# Altium footprint library Package_SO.PcbLib: 393 footprints (part 12 of 25)
Each footprint in its own frame and in the unit in brackets; x right, y up, seen from the top. Pads: shape width x height; smd on the part's side, far side on the other; paste and mask are expansions set on the pad; w line width, h text height; cw(c..) or ccw(c..) is an arc to the next point about the centre after c.
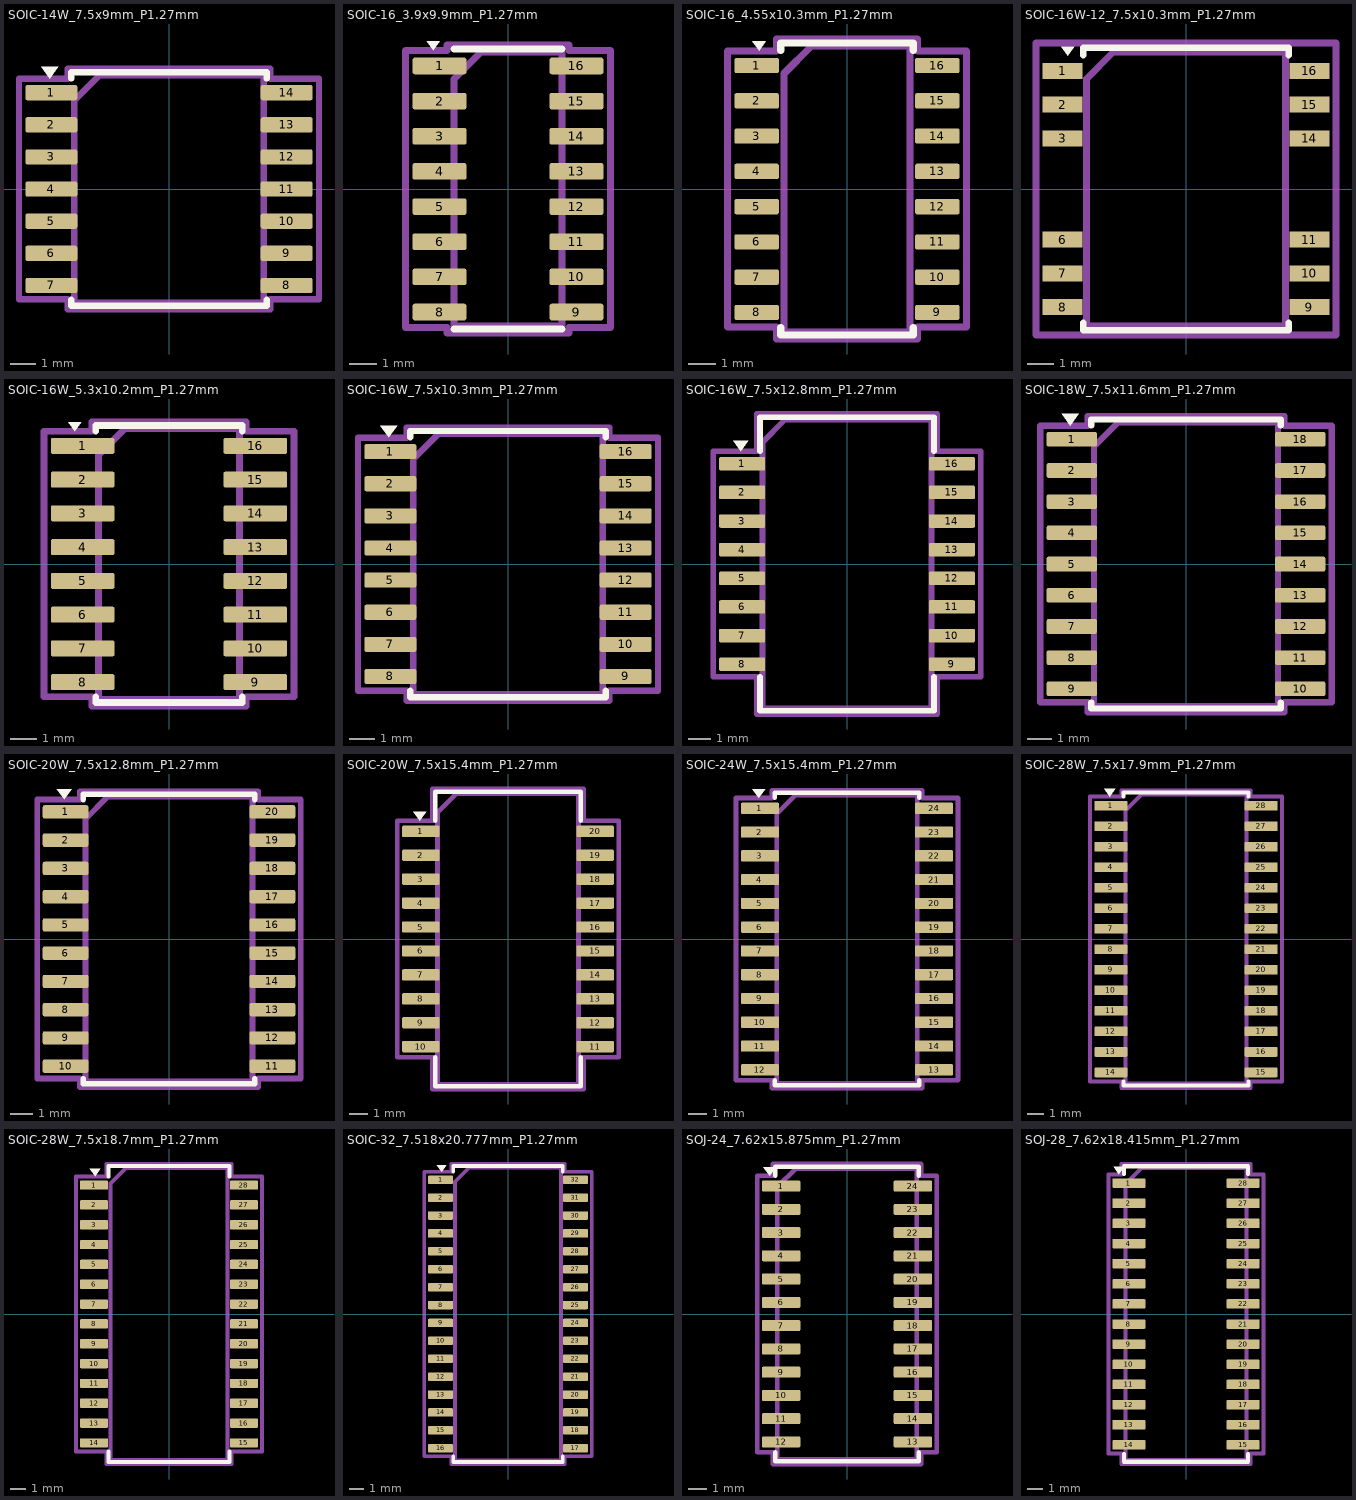
[diagram p11: the footprints below, top view; thin cyan lines are the x and y axes]

## SOIC-14W_7.5x9mm_P1.27mm [mm]
pads (14):
  rrect25% 2.05x0.6 smd: 1(-4.65,3.81) 2(-4.65,2.54) 3(-4.65,1.27) 4(-4.65,0) 5(-4.65,-1.27) 6(-4.65,-2.54) 7(-4.65,-3.81) 8(4.65,-3.81) 9(4.65,-2.54) 10(4.65,-1.27) 11(4.65,0) 12(4.65,1.27) 13(4.65,2.54) 14(4.65,3.81)
F.SilkS:
  region: -4.713,4.37 -5.052,4.84 -4.373,4.84
  lines w0.254: -3.86,-4.37 -3.86,-4.61 0,-4.61 3.86,-4.61 3.86,-4.37 ; -3.86,4.37 -3.86,4.61 0,4.61 3.86,4.61 3.86,4.37
Top Assembly:
  lines w0.254: -3.75,-4.5 3.75,-4.5 3.75,4.5 -2.75,4.5 -3.75,3.5 -3.75,-4.5
  text "'.Designator'" at -4.047,-0.84 h1
Top Courtyard:
  lines w0.254: -5.93,-4.36 -4,-4.36 -4,-4.75 4,-4.75 4,-4.36 5.93,-4.36 5.93,4.36 4,4.36 4,4.75 -4,4.75 -4,4.36 -5.93,4.36 -5.93,-4.36
Top Designator:
  text ".Designator" at -7.618,-0.508 h1.52

## SOIC-16_3.9x9.9mm_P1.27mm [mm]
pads (16):
  rrect25% 1.95x0.6 smd: 1(-2.475,4.445) 2(-2.475,3.175) 3(-2.475,1.905) 4(-2.475,0.635) 5(-2.475,-0.635) 6(-2.475,-1.905) 7(-2.475,-3.175) 8(-2.475,-4.445) 9(2.475,-4.445) 10(2.475,-3.175) 11(2.475,-1.905) 12(2.475,-0.635) 13(2.475,0.635) 14(2.475,1.905) 15(2.475,3.175) 16(2.475,4.445)
F.SilkS:
  region: -2.7,5.005 -2.94,5.335 -2.46,5.335
  lines w0.254: -1.95,-5.06 0,-5.06 1.95,-5.06 ; -1.95,5.06 0,5.06 1.95,5.06
Top Assembly:
  lines w0.254: -1.95,-4.95 1.95,-4.95 1.95,4.95 -0.975,4.95 -1.95,3.975 -1.95,-4.95
  text "'.Designator'" at -3.969,-0.827 h0.98
Top Courtyard:
  lines w0.254: -3.7,-5 -2.2,-5 -2.2,-5.2 2.2,-5.2 2.2,-5 3.7,-5 3.7,5 2.2,5 2.2,5.2 -2.2,5.2 -2.2,5 -3.7,5 -3.7,-5
Top Designator:
  text ".Designator" at -7.763,-0.504 h1.52

## SOIC-16_4.55x10.3mm_P1.27mm [mm]
pads (16):
  rrect25% 1.6x0.55 smd: 1(-3.25,4.445) 2(-3.25,3.175) 3(-3.25,1.905) 4(-3.25,0.635) 5(-3.25,-0.635) 6(-3.25,-1.905) 7(-3.25,-3.175) 8(-3.25,-4.445) 9(3.25,-4.445) 10(3.25,-3.175) 11(3.25,-1.905) 12(3.25,-0.635) 13(3.25,0.635) 14(3.25,1.905) 15(3.25,3.175) 16(3.25,4.445)
F.SilkS:
  region: -3.163,4.98 -3.403,5.31 -2.923,5.31
  lines w0.254: -2.385,-4.98 -2.385,-5.26 0,-5.26 2.385,-5.26 2.385,-4.98 ; -2.385,4.98 -2.385,5.26 0,5.26 2.385,5.26 2.385,4.98
Top Assembly:
  lines w0.254: -2.275,-5.15 2.275,-5.15 2.275,5.15 -1.275,5.15 -2.275,4.15 -2.275,-5.15
  text "'.Designator'" at -4.047,-0.84 h1
Top Courtyard:
  lines w0.254: -4.3,-4.97 -2.53,-4.97 -2.53,-5.4 2.53,-5.4 2.53,-4.97 4.3,-4.97 4.3,4.97 2.53,4.97 2.53,5.4 -2.53,5.4 -2.53,4.97 -4.3,4.97 -4.3,-4.97
Top Designator:
  text ".Designator" at -7.618,-0.508 h1.52

## SOIC-16W-12_7.5x10.3mm_P1.27mm [mm]
pads (12):
  rect 1.5x0.6 smd: 1(-4.65,4.445) 2(-4.65,3.175) 3(-4.65,1.905) 6(-4.65,-1.905) 7(-4.65,-3.175) 8(-4.65,-4.445) 9(4.65,-4.445) 10(4.65,-3.175) 11(4.65,-1.905) 14(4.65,1.905) 15(4.65,3.175) 16(4.65,4.445)
F.SilkS:
  region: -4.45,5.025 -4.69,5.355 -4.21,5.355
  lines w0.254: -3.875,-5.05 -3.875,-5.325 3.875,-5.325 3.875,-5.05 ; -3.875,5.05 -3.875,5.325 3.875,5.325 3.875,5.05
Top Assembly:
  lines w0.254: -3.75,-5.15 3.75,-5.15 3.75,5.15 -2.75,5.15 -3.75,4.15 -3.75,-5.15
  text "'.Designator'" at -4.047,-0.84 h1
Top Courtyard:
  lines w0.254: -5.65,-5.5 5.65,-5.5 5.65,5.5 -5.65,5.5 -5.65,-5.5
Top Designator:
  text ".Designator" at -7.618,-0.508 h1.52

## SOIC-16W_5.3x10.2mm_P1.27mm [mm]
pads (16):
  rrect25% 2.4x0.6 smd: 1(-3.25,4.445) 2(-3.25,3.175) 3(-3.25,1.905) 4(-3.25,0.635) 5(-3.25,-0.635) 6(-3.25,-1.905) 7(-3.25,-3.175) 8(-3.25,-4.445) 9(3.25,-4.445) 10(3.25,-3.175) 11(3.25,-1.905) 12(3.25,-0.635) 13(3.25,0.635) 14(3.25,1.905) 15(3.25,3.175) 16(3.25,4.445)
F.SilkS:
  region: -3.55,5.005 -3.79,5.335 -3.31,5.335
  lines w0.254: -2.76,-5.005 -2.76,-5.21 0,-5.21 2.76,-5.21 2.76,-5.005 ; -2.76,5.005 -2.76,5.21 0,5.21 2.76,5.21 2.76,5.005
Top Assembly:
  lines w0.254: -2.65,-5.1 2.65,-5.1 2.65,5.1 -1.65,5.1 -2.65,4.1 -2.65,-5.1
  text "'.Designator'" at -4.047,-0.84 h1
Top Courtyard:
  lines w0.254: -4.7,-5 -2.9,-5 -2.9,-5.35 2.9,-5.35 2.9,-5 4.7,-5 4.7,5 2.9,5 2.9,5.35 -2.9,5.35 -2.9,5 -4.7,5 -4.7,-5
Top Designator:
  text ".Designator" at -7.618,-0.508 h1.52

## SOIC-16W_7.5x10.3mm_P1.27mm [mm]
pads (16):
  rrect25% 2.05x0.6 smd: 1(-4.65,4.445) 2(-4.65,3.175) 3(-4.65,1.905) 4(-4.65,0.635) 5(-4.65,-0.635) 6(-4.65,-1.905) 7(-4.65,-3.175) 8(-4.65,-4.445) 9(4.65,-4.445) 10(4.65,-3.175) 11(4.65,-1.905) 12(4.65,-0.635) 13(4.65,0.635) 14(4.65,1.905) 15(4.65,3.175) 16(4.65,4.445)
F.SilkS:
  region: -4.713,5.005 -5.052,5.475 -4.373,5.475
  lines w0.254: -3.86,-5.005 -3.86,-5.26 0,-5.26 3.86,-5.26 3.86,-5.005 ; -3.86,5.005 -3.86,5.26 0,5.26 3.86,5.26 3.86,5.005
Top Assembly:
  lines w0.254: -3.75,-5.15 3.75,-5.15 3.75,5.15 -2.75,5.15 -3.75,4.15 -3.75,-5.15
  text "'.Designator'" at -4.047,-0.84 h1
Top Courtyard:
  lines w0.254: -5.93,-5 -4,-5 -4,-5.4 4,-5.4 4,-5 5.93,-5 5.93,5 4,5 4,5.4 -4,5.4 -4,5 -5.93,5 -5.93,-5
Top Designator:
  text ".Designator" at -7.618,-0.508 h1.52

## SOIC-16W_7.5x12.8mm_P1.27mm [mm]
pads (16):
  rrect25% 2.05x0.6 smd: 1(-4.65,4.445) 2(-4.65,3.175) 3(-4.65,1.905) 4(-4.65,0.635) 5(-4.65,-0.635) 6(-4.65,-1.905) 7(-4.65,-3.175) 8(-4.65,-4.445) 9(4.65,-4.445) 10(4.65,-3.175) 11(4.65,-1.905) 12(4.65,-0.635) 13(4.65,0.635) 14(4.65,1.905) 15(4.65,3.175) 16(4.65,4.445)
F.SilkS:
  region: -4.713,5.005 -5.052,5.475 -4.373,5.475
  lines w0.254: -3.86,-5.005 -3.86,-6.51 0,-6.51 3.86,-6.51 3.86,-5.005 ; -3.86,5.005 -3.86,6.51 0,6.51 3.86,6.51 3.86,5.005
Top Assembly:
  lines w0.254: -3.75,-6.4 3.75,-6.4 3.75,6.4 -2.75,6.4 -3.75,5.4 -3.75,-6.4
  text "'.Designator'" at -4.047,-0.84 h1
Top Courtyard:
  lines w0.254: -5.93,-5 -4,-5 -4,-6.65 4,-6.65 4,-5 5.93,-5 5.93,5 4,5 4,6.65 -4,6.65 -4,5 -5.93,5 -5.93,-5
Top Designator:
  text ".Designator" at -7.618,-0.508 h1.52

## SOIC-18W_7.5x11.6mm_P1.27mm [mm]
pads (18):
  rrect25% 2.05x0.6 smd: 1(-4.65,5.08) 2(-4.65,3.81) 3(-4.65,2.54) 4(-4.65,1.27) 5(-4.65,0) 6(-4.65,-1.27) 7(-4.65,-2.54) 8(-4.65,-3.81) 9(-4.65,-5.08) 10(4.65,-5.08) 11(4.65,-3.81) 12(4.65,-2.54) 13(4.65,-1.27) 14(4.65,0) 15(4.65,1.27) 16(4.65,2.54) 17(4.65,3.81) 18(4.65,5.08)
F.SilkS:
  region: -4.713,5.64 -5.052,6.11 -4.373,6.11
  lines w0.254: -3.86,-5.64 -3.86,-5.885 0,-5.885 3.86,-5.885 3.86,-5.64 ; -3.86,5.64 -3.86,5.885 0,5.885 3.86,5.885 3.86,5.64
Top Assembly:
  lines w0.254: -3.75,-5.775 3.75,-5.775 3.75,5.775 -2.75,5.775 -3.75,4.775 -3.75,-5.775
  text "'.Designator'" at -4.047,-0.84 h1
Top Courtyard:
  lines w0.254: -5.93,-5.63 -4,-5.63 -4,-6.03 4,-6.03 4,-5.63 5.93,-5.63 5.93,5.63 4,5.63 4,6.03 -4,6.03 -4,5.63 -5.93,5.63 -5.93,-5.63
Top Designator:
  text ".Designator" at -7.618,-0.508 h1.52

## SOIC-20W_7.5x12.8mm_P1.27mm [mm]
pads (20):
  rrect25% 2.05x0.6 smd: 1(-4.65,5.715) 2(-4.65,4.445) 3(-4.65,3.175) 4(-4.65,1.905) 5(-4.65,0.635) 6(-4.65,-0.635) 7(-4.65,-1.905) 8(-4.65,-3.175) 9(-4.65,-4.445) 10(-4.65,-5.715) 11(4.65,-5.715) 12(4.65,-4.445) 13(4.65,-3.175) 14(4.65,-1.905) 15(4.65,-0.635) 16(4.65,0.635) 17(4.65,1.905) 18(4.65,3.175) 19(4.65,4.445) 20(4.65,5.715)
F.SilkS:
  region: -4.713,6.275 -5.052,6.745 -4.373,6.745
  lines w0.254: -3.86,-6.275 -3.86,-6.51 0,-6.51 3.86,-6.51 3.86,-6.275 ; -3.86,6.275 -3.86,6.51 0,6.51 3.86,6.51 3.86,6.275
Top Assembly:
  lines w0.254: -3.75,-6.4 3.75,-6.4 3.75,6.4 -2.75,6.4 -3.75,5.4 -3.75,-6.4
  text "'.Designator'" at -4.047,-0.84 h1
Top Courtyard:
  lines w0.254: -5.93,-6.27 -4,-6.27 -4,-6.65 4,-6.65 4,-6.27 5.93,-6.27 5.93,6.27 4,6.27 4,6.65 -4,6.65 -4,6.27 -5.93,6.27 -5.93,-6.27
Top Designator:
  text ".Designator" at -7.618,-0.508 h1.52

## SOIC-20W_7.5x15.4mm_P1.27mm [mm]
pads (20):
  rrect25% 2x0.6 smd: 1(-4.625,5.715) 2(-4.625,4.445) 3(-4.625,3.175) 4(-4.625,1.905) 5(-4.625,0.635) 6(-4.625,-0.635) 7(-4.625,-1.905) 8(-4.625,-3.175) 9(-4.625,-4.445) 10(-4.625,-5.715) 11(4.625,-5.715) 12(4.625,-4.445) 13(4.625,-3.175) 14(4.625,-1.905) 15(4.625,-0.635) 16(4.625,0.635) 17(4.625,1.905) 18(4.625,3.175) 19(4.625,4.445) 20(4.625,5.715)
F.SilkS:
  region: -4.685,6.275 -5.025,6.745 -4.345,6.745
  lines w0.254: -3.855,-6.275 -3.855,-7.812 0,-7.812 3.855,-7.812 3.855,-6.275 ; -3.855,6.275 -3.855,7.812 0,7.812 3.855,7.812 3.855,6.275
Top Assembly:
  lines w0.254: -3.745,-7.702 3.745,-7.702 3.745,7.702 -2.745,7.702 -3.745,6.703 -3.745,-7.702
  text "'.Designator'" at -4.047,-0.84 h1
Top Courtyard:
  lines w0.254: -5.88,-6.27 -4,-6.27 -4,-7.96 4,-7.96 4,-6.27 5.88,-6.27 5.88,6.27 4,6.27 4,7.96 -4,7.96 -4,6.27 -5.88,6.27 -5.88,-6.27
Top Designator:
  text ".Designator" at -7.618,-0.508 h1.52

## SOIC-24W_7.5x15.4mm_P1.27mm [mm]
pads (24):
  rrect25% 2.05x0.6 smd: 1(-4.65,6.985) 2(-4.65,5.715) 3(-4.65,4.445) 4(-4.65,3.175) 5(-4.65,1.905) 6(-4.65,0.635) 7(-4.65,-0.635) 8(-4.65,-1.905) 9(-4.65,-3.175) 10(-4.65,-4.445) 11(-4.65,-5.715) 12(-4.65,-6.985) 13(4.65,-6.985) 14(4.65,-5.715) 15(4.65,-4.445) 16(4.65,-3.175) 17(4.65,-1.905) 18(4.65,-0.635) 19(4.65,0.635) 20(4.65,1.905) 21(4.65,3.175) 22(4.65,4.445) 23(4.65,5.715) 24(4.65,6.985)
F.SilkS:
  region: -4.713,7.545 -5.052,8.015 -4.373,8.015
  lines w0.254: -3.86,-7.545 -3.86,-7.81 0,-7.81 3.86,-7.81 3.86,-7.545 ; -3.86,7.545 -3.86,7.81 0,7.81 3.86,7.81 3.86,7.545
Top Assembly:
  lines w0.254: -3.75,-7.7 3.75,-7.7 3.75,7.7 -2.75,7.7 -3.75,6.7 -3.75,-7.7
  text "'.Designator'" at -4.047,-0.84 h1
Top Courtyard:
  lines w0.254: -5.93,-7.54 -4,-7.54 -4,-7.95 4,-7.95 4,-7.54 5.93,-7.54 5.93,7.54 4,7.54 4,7.95 -4,7.95 -4,7.54 -5.93,7.54 -5.93,-7.54
Top Designator:
  text ".Designator" at -7.618,-0.508 h1.52

## SOIC-28W_7.5x17.9mm_P1.27mm [mm]
pads (28):
  rrect25% 2.05x0.6 smd: 1(-4.65,8.255) 2(-4.65,6.985) 3(-4.65,5.715) 4(-4.65,4.445) 5(-4.65,3.175) 6(-4.65,1.905) 7(-4.65,0.635) 8(-4.65,-0.635) 9(-4.65,-1.905) 10(-4.65,-3.175) 11(-4.65,-4.445) 12(-4.65,-5.715) 13(-4.65,-6.985) 14(-4.65,-8.255) 15(4.65,-8.255) 16(4.65,-6.985) 17(4.65,-5.715) 18(4.65,-4.445) 19(4.65,-3.175) 20(4.65,-1.905) 21(4.65,-0.635) 22(4.65,0.635) 23(4.65,1.905) 24(4.65,3.175) 25(4.65,4.445) 26(4.65,5.715) 27(4.65,6.985) 28(4.65,8.255)
F.SilkS:
  region: -4.713,8.815 -5.052,9.285 -4.373,9.285
  lines w0.254: -3.86,-8.815 -3.86,-9.06 0,-9.06 3.86,-9.06 3.86,-8.815 ; -3.86,8.815 -3.86,9.06 0,9.06 3.86,9.06 3.86,8.815
Top Assembly:
  lines w0.254: -3.75,-8.95 3.75,-8.95 3.75,8.95 -2.75,8.95 -3.75,7.95 -3.75,-8.95
  text "'.Designator'" at -4.047,-0.84 h1
Top Courtyard:
  lines w0.254: -5.93,-8.81 -4,-8.81 -4,-9.2 4,-9.2 4,-8.81 5.93,-8.81 5.93,8.81 4,8.81 4,9.2 -4,9.2 -4,8.81 -5.93,8.81 -5.93,-8.81
Top Designator:
  text ".Designator" at -7.618,-0.508 h1.52

## SOIC-28W_7.5x18.7mm_P1.27mm [mm]
pads (28):
  rrect25% 1.8x0.6 smd: 1(-4.8,8.255) 2(-4.8,6.985) 3(-4.8,5.715) 4(-4.8,4.445) 5(-4.8,3.175) 6(-4.8,1.905) 7(-4.8,0.635) 8(-4.8,-0.635) 9(-4.8,-1.905) 10(-4.8,-3.175) 11(-4.8,-4.445) 12(-4.8,-5.715) 13(-4.8,-6.985) 14(-4.8,-8.255) 15(4.8,-8.255) 16(4.8,-6.985) 17(4.8,-5.715) 18(4.8,-4.445) 19(4.8,-3.175) 20(4.8,-1.905) 21(4.8,-0.635) 22(4.8,0.635) 23(4.8,1.905) 24(4.8,3.175) 25(4.8,4.445) 26(4.8,5.715) 27(4.8,6.985) 28(4.8,8.255)
F.SilkS:
  region: -4.725,8.815 -5.065,9.285 -4.385,9.285
  lines w0.254: -3.86,-8.815 -3.86,-9.46 0,-9.46 3.86,-9.46 3.86,-8.815 ; -3.86,8.815 -3.86,9.46 0,9.46 3.86,9.46 3.86,8.815
Top Assembly:
  lines w0.254: -3.75,-9.35 3.75,-9.35 3.75,9.35 -2.75,9.35 -3.75,8.35 -3.75,-9.35
  text "'.Designator'" at -4.047,-0.84 h1
Top Courtyard:
  lines w0.254: -5.95,-8.81 -4,-8.81 -4,-9.6 4,-9.6 4,-8.81 5.95,-8.81 5.95,8.81 4,8.81 4,9.6 -4,9.6 -4,8.81 -5.95,8.81 -5.95,-8.81
Top Designator:
  text ".Designator" at -7.618,-0.508 h1.52

## SOIC-32_7.518x20.777mm_P1.27mm [mm]
pads (32):
  rrect25% 1.775x0.6 smd: 1(-4.788,9.525) 2(-4.788,8.255) 3(-4.788,6.985) 4(-4.788,5.715) 5(-4.788,4.445) 6(-4.788,3.175) 7(-4.788,1.905) 8(-4.788,0.635) 9(-4.788,-0.635) 10(-4.788,-1.905) 11(-4.788,-3.175) 12(-4.788,-4.445) 13(-4.788,-5.715) 14(-4.788,-6.985) 15(-4.788,-8.255) 16(-4.788,-9.525) 17(4.788,-9.525) 18(4.788,-8.255) 19(4.788,-6.985) 20(4.788,-5.715) 21(4.788,-4.445) 22(4.788,-3.175) 23(4.788,-1.905) 24(4.788,-0.635) 25(4.788,0.635) 26(4.788,1.905) 27(4.788,3.175) 28(4.788,4.445) 29(4.788,5.715) 30(4.788,6.985) 31(4.788,8.255) 32(4.788,9.525)
F.SilkS:
  region: -4.717,10.085 -5.057,10.555 -4.377,10.555
  lines w0.254: -3.869,-10.085 -3.869,-10.499 0,-10.499 3.869,-10.499 3.869,-10.085 ; -3.869,10.085 -3.869,10.499 0,10.499 3.869,10.499 3.869,10.085
Top Assembly:
  lines w0.254: -3.759,-10.389 3.759,-10.389 3.759,10.389 -2.759,10.389 -3.759,9.389 -3.759,-10.389
  text "'.Designator'" at -4.047,-0.84 h1
Top Courtyard:
  lines w0.254: -5.93,-10.08 -4.01,-10.08 -4.01,-10.64 4.01,-10.64 4.01,-10.08 5.93,-10.08 5.93,10.08 4.01,10.08 4.01,10.64 -4.01,10.64 -4.01,10.08 -5.93,10.08 -5.93,-10.08
Top Designator:
  text ".Designator" at -7.618,-0.508 h1.52

## SOJ-24_7.62x15.875mm_P1.27mm [mm]
pads (24):
  rrect25% 2.1x0.6 smd: 1(-3.6,6.985) 2(-3.6,5.715) 3(-3.6,4.445) 4(-3.6,3.175) 5(-3.6,1.905) 6(-3.6,0.635) 7(-3.6,-0.635) 8(-3.6,-1.905) 9(-3.6,-3.175) 10(-3.6,-4.445) 11(-3.6,-5.715) 12(-3.6,-6.985) 13(3.6,-6.985) 14(3.6,-5.715) 15(3.6,-4.445) 16(3.6,-3.175) 17(3.6,-1.905) 18(3.6,-0.635) 19(3.6,0.635) 20(3.6,1.905) 21(3.6,3.175) 22(3.6,4.445) 23(3.6,5.715) 24(3.6,6.985)
F.SilkS:
  region: -4.23,7.545 -4.57,8.015 -3.89,8.015
  lines w0.254: -3.92,-7.545 -3.92,-8.047 0,-8.047 3.92,-8.047 3.92,-7.545 ; -3.92,7.545 -3.92,8.047 0,8.047 3.92,8.047 3.92,7.545
Top Assembly:
  lines w0.254: -3.81,-7.938 3.81,-7.938 3.81,7.938 -2.81,7.938 -3.81,6.937 -3.81,-7.938
  text "'.Designator'" at -4.047,-0.84 h1
Top Courtyard:
  lines w0.254: -4.9,-7.54 -4.06,-7.54 -4.06,-8.19 4.06,-8.19 4.06,-7.54 4.9,-7.54 4.9,7.54 4.06,7.54 4.06,8.19 -4.06,8.19 -4.06,7.54 -4.9,7.54 -4.9,-7.54
Top Designator:
  text ".Designator" at -7.618,-0.508 h1.52

## SOJ-28_7.62x18.415mm_P1.27mm [mm]
pads (28):
  rrect25% 2.1x0.6 smd: 1(-3.6,8.255) 2(-3.6,6.985) 3(-3.6,5.715) 4(-3.6,4.445) 5(-3.6,3.175) 6(-3.6,1.905) 7(-3.6,0.635) 8(-3.6,-0.635) 9(-3.6,-1.905) 10(-3.6,-3.175) 11(-3.6,-4.445) 12(-3.6,-5.715) 13(-3.6,-6.985) 14(-3.6,-8.255) 15(3.6,-8.255) 16(3.6,-6.985) 17(3.6,-5.715) 18(3.6,-4.445) 19(3.6,-3.175) 20(3.6,-1.905) 21(3.6,-0.635) 22(3.6,0.635) 23(3.6,1.905) 24(3.6,3.175) 25(3.6,4.445) 26(3.6,5.715) 27(3.6,6.985) 28(3.6,8.255)
F.SilkS:
  region: -4.23,8.815 -4.57,9.285 -3.89,9.285
  lines w0.254: -3.92,-8.815 -3.92,-9.317 0,-9.317 3.92,-9.317 3.92,-8.815 ; -3.92,8.815 -3.92,9.317 0,9.317 3.92,9.317 3.92,8.815
Top Assembly:
  lines w0.254: -3.81,-9.207 3.81,-9.207 3.81,9.207 -2.81,9.207 -3.81,8.207 -3.81,-9.207
  text "'.Designator'" at -4.047,-0.84 h1
Top Courtyard:
  lines w0.254: -4.9,-8.81 -4.06,-8.81 -4.06,-9.46 4.06,-9.46 4.06,-8.81 4.9,-8.81 4.9,8.81 4.06,8.81 4.06,9.46 -4.06,9.46 -4.06,8.81 -4.9,8.81 -4.9,-8.81
Top Designator:
  text ".Designator" at -7.618,-0.508 h1.52